# Altium schematic symbol library 2019-07-21_03-32-45.SchLib: 10 symbols
Pins are listed as number, name and electrical type; pins without a type are passive.

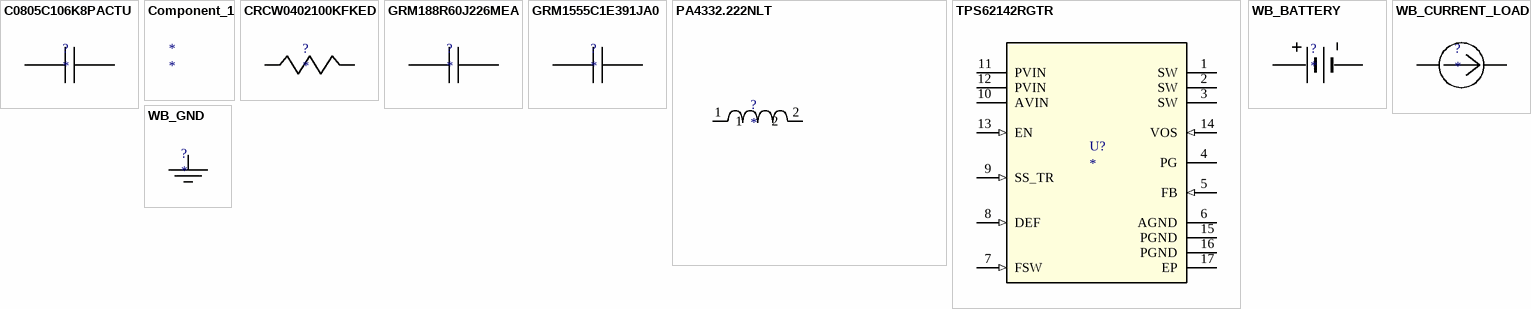
[diagram p0: symbols C0805C106K8PACTU to WB_GND]

## C0805C106K8PACTU
designator ?
Imported; Manufacturer_Part_Number: C0805C106K8PACTU; Vendor: Kemet; Manufacturer_Name: Kemet; RefDes: RefDes; TYPE: TYPE; Value: Value
footprint 0805
pins: 1, 2

## Component_1
designator *

## CRCW0402100KFKED
designator ?
Imported; Manufacturer_Part_Number: CRCW0402100KFKED; Vendor: Vishay-Dale; Manufacturer_Name: Vishay-Dale; RefDes: RefDes; TYPE: TYPE; Value: Value
footprint 0402
pins: 1, 2

## GRM188R60J226MEA
designator ?
Imported; Manufacturer_Part_Number: GRM188R60J226MEA0D; Vendor: MuRata; Manufacturer_Name: MuRata; RefDes: RefDes; TYPE: TYPE; Value: Value
footprint 0603
pins: 1, 2

## GRM1555C1E391JA0
designator ?
Imported; Manufacturer_Part_Number: GRM1555C1E391JA01D; Vendor: MuRata; Manufacturer_Name: MuRata; RefDes: RefDes; TYPE: TYPE; Value: Value
footprint 0402
pins: 1, 2

## PA4332.222NLT
designator ?
Imported; Manufacturer_Part_Number: PA4332.222NLT; Vendor: Pulse Engineering; Manufacturer_Name: Pulse Engineering; RefDes: RefDes; TYPE: TYPE; Value: Value
footprint PA4332
pins: 1, 2

## TPS62142RGTR
designator U?
Imported; PartNumber: TPS62142RGTR; Manufacturer: Texas Instruments; RefDes: RefDes; TYPE: TYPE; Value: Value; Manufacturer_Part_Number: TPS62142RGTR; Manufacturer_Name: Texas Instruments
footprint RGT0016C
pins: 1 SW (power), 2 SW (power), 3 SW (power), 4 PG (oc), 5 FB (in), 6 AGND (power), 7 FSW (in), 8 DEF (in), 9 SS_TR (in), 10 AVIN (power), 11 PVIN (power), 12 PVIN (power), 13 EN (in), 14 VOS (in), 15 PGND (power), 16 PGND (power), 17 EP (power)

## WB_BATTERY
designator ?
Imported; Manufacturer_Part_Number: WB_BATTERY; PowerPortType: POWER_GROUND; Value: Value; Manufacturer_Name: WB_BATTERY; RefDes: RefDes; TYPE: TYPE
pins: 1 +, 2 -

## WB_CURRENT_LOAD
designator ?
Imported; Manufacturer_Part_Number: WB_CURRENT_LOAD; PowerPortType: POWER_GROUND; Value: Value; Manufacturer_Name: WB_CURRENT_LOAD; RefDes: RefDes; TYPE: TYPE
pins: 1 +, 2 -

## WB_GND
designator ?
Imported; Manufacturer_Part_Number: WB_GND; PowerPortType: POWER_GROUND; Value: Value; Manufacturer_Name: WB_GND; RefDes: RefDes; TYPE: TYPE
pins: 1